# Altium footprint library memory-micron.PCBLIB: 4 footprints
Each footprint in its own frame and in the unit in brackets; x right, y up, seen from the top. Pads: shape width x height; smd on the part's side, far side on the other; paste and mask are expansions set on the pad; w line width, h text height; cw(c..) or ccw(c..) is an arc to the next point about the centre after c.
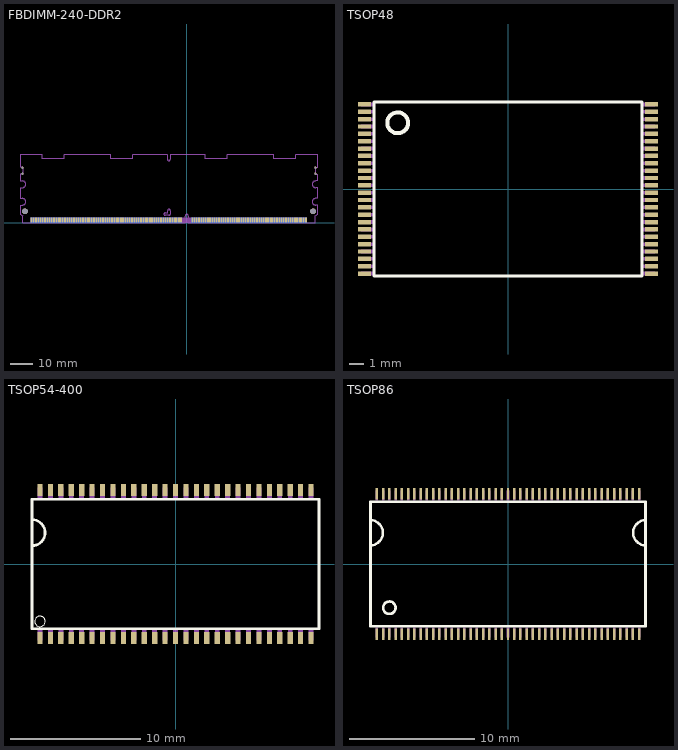
[diagram p0: the footprints below, top view; thin cyan lines are the x and y axes]

## FBDIMM-240-DDR2 [mil]
pads (246):
  round 39.37 hole 39.37: 1(-2896.46,869.09) 1(-2896.26,974.41) 1(2271.26,974.41) 1(2271.46,869.09)
  round 102.36 hole 102.36: 1(-2854.13,204.72) 1(2230.12,204.72)
  rect 31.5x90.55 smd: 1(-2736.22,49.21) 2(-2696.85,49.21) 3(-2657.48,49.21) 4(-2618.11,49.21) 5(-2578.74,49.21) 6(-2539.37,49.21) 7(-2500,49.21) 8(-2460.63,49.21) 9(-2421.26,49.21) 10(-2381.89,49.21) 11(-2342.52,49.21) 12(-2303.15,49.21) 13(-2263.78,49.21) 14(-2224.41,49.21) 15(-2185.04,49.21) 16(-2145.67,49.21) 17(-2106.3,49.21) 18(-2066.93,49.21) 19(-2027.56,49.21) 20(-1988.19,49.21) 21(-1948.82,49.21) 22(-1909.45,49.21) 23(-1870.08,49.21) 24(-1830.71,49.21) 25(-1791.34,49.21) 26(-1751.97,49.21) 27(-1712.6,49.21) 28(-1673.23,49.21) 29(-1633.86,49.21) 30(-1594.49,49.21) 31(-1555.12,49.21) 32(-1515.75,49.21) 33(-1476.38,49.21) 34(-1437.01,49.21) 35(-1397.64,49.21) 36(-1358.27,49.21) 37(-1318.9,49.21) 38(-1279.53,49.21) 39(-1240.16,49.21) 40(-1200.79,49.21) 41(-1161.42,49.21) 42(-1122.05,49.21) 43(-1082.68,49.21) 44(-1043.31,49.21) 45(-1003.94,49.21) 46(-964.57,49.21) 47(-925.2,49.21) 48(-885.83,49.21) 49(-846.46,49.21) 50(-807.09,49.21) 51(-767.72,49.21) 52(-728.35,49.21) 53(-688.98,49.21) 54(-649.61,49.21) 55(-610.24,49.21) 56(-570.87,49.21) 57(-531.5,49.21) 58(-492.13,49.21) 59(-452.76,49.21) 60(-413.39,49.21) 61(-374.02,49.21) 62(-334.65,49.21) 63(-295.28,49.21) 64(-255.91,49.21) 65(-216.54,49.21) 66(-177.17,49.21) 67(-137.8,49.21) 68(-98.43,49.21) 69(98.43,49.21) 70(137.8,49.21) 71(177.17,49.21) 72(216.54,49.21) 73(255.91,49.21) 74(295.28,49.21) 75(334.65,49.21) 76(374.02,49.21) 77(413.39,49.21) 78(452.76,49.21) 79(492.13,49.21) 80(531.5,49.21) 81(570.87,49.21) 82(610.24,49.21) 83(649.61,49.21) 84(688.98,49.21) 85(728.35,49.21) 86(767.72,49.21) 87(807.09,49.21) 88(846.46,49.21) 89(885.83,49.21) 90(925.2,49.21) 91(964.57,49.21) 92(1003.94,49.21) 93(1043.31,49.21) 94(1082.68,49.21) 95(1122.05,49.21) 96(1161.42,49.21) 97(1200.79,49.21) 98(1240.16,49.21) 99(1279.53,49.21) 100(1318.9,49.21) 101(1358.27,49.21) 102(1397.64,49.21) 103(1437.01,49.21) 104(1476.38,49.21) 105(1515.75,49.21) 106(1555.12,49.21) 107(1594.49,49.21) 108(1633.86,49.21) 109(1673.23,49.21) 110(1712.6,49.21) 111(1751.97,49.21) 112(1791.34,49.21) 113(1830.71,49.21) 114(1870.08,49.21) 115(1909.45,49.21) 116(1948.82,49.21) 117(1988.19,49.21) 118(2027.56,49.21) 119(2066.93,49.21) 120(2106.3,49.21)
  rect 31.5x90.55 smd far side: 121(-2736.22,49.21) 122(-2696.85,49.21) 123(-2657.48,49.21) 124(-2618.11,49.21) 125(-2578.74,49.21) 126(-2539.37,49.21) 127(-2500,49.21) 128(-2460.63,49.21) 129(-2421.26,49.21) 130(-2381.89,49.21) 131(-2342.52,49.21) 132(-2303.15,49.21) 133(-2263.78,49.21) 134(-2224.41,49.21) 135(-2185.04,49.21) 136(-2145.67,49.21) 137(-2106.3,49.21) 138(-2066.93,49.21) 139(-2027.56,49.21) 140(-1988.19,49.21) 141(-1948.82,49.21) 142(-1909.45,49.21) 143(-1870.08,49.21) 144(-1830.71,49.21) 145(-1791.34,49.21) 146(-1751.97,49.21) 147(-1712.6,49.21) 148(-1673.23,49.21) 149(-1633.86,49.21) 150(-1594.49,49.21) 151(-1555.12,49.21) 152(-1515.75,49.21) 153(-1476.38,49.21) 154(-1437.01,49.21) 155(-1397.64,49.21) 156(-1358.27,49.21) 157(-1318.9,49.21) 158(-1279.53,49.21) 159(-1240.16,49.21) 160(-1200.79,49.21) 161(-1161.42,49.21) 162(-1122.05,49.21) 163(-1082.68,49.21) 164(-1043.31,49.21) 165(-1003.94,49.21) 166(-964.57,49.21) 167(-925.2,49.21) 168(-885.83,49.21) 169(-846.46,49.21) 170(-807.09,49.21) 171(-767.72,49.21) 172(-728.35,49.21) 173(-688.98,49.21) 174(-649.61,49.21) 175(-610.24,49.21) 176(-570.87,49.21) 177(-531.5,49.21) 178(-492.13,49.21) 179(-452.76,49.21) 180(-413.39,49.21) 181(-374.02,49.21) 182(-334.65,49.21) 183(-295.28,49.21) 184(-255.91,49.21) 185(-216.54,49.21) 186(-177.17,49.21) 187(-137.8,49.21) 188(-98.43,49.21) 189(98.43,49.21) 190(137.8,49.21) 191(177.17,49.21) 192(216.54,49.21) 193(255.91,49.21) 194(295.28,49.21) 195(334.65,49.21) 196(374.02,49.21) 197(413.39,49.21) 198(452.76,49.21) 199(492.13,49.21) 200(531.5,49.21) 201(570.87,49.21) 202(610.24,49.21) 203(649.61,49.21) 204(688.98,49.21) 205(728.35,49.21) 206(767.72,49.21) 207(807.09,49.21) 208(846.46,49.21) 209(885.83,49.21) 210(925.2,49.21) 211(964.57,49.21) 212(1003.94,49.21) 213(1043.31,49.21) 214(1082.68,49.21) 215(1122.05,49.21) 216(1161.42,49.21) 217(1200.79,49.21) 218(1240.16,49.21) 219(1279.53,49.21) 220(1318.9,49.21) 221(1358.27,49.21) 222(1397.64,49.21) 223(1437.01,49.21) 224(1476.38,49.21) 225(1515.75,49.21) 226(1555.12,49.21) 227(1594.49,49.21) 228(1633.86,49.21) 229(1673.23,49.21) 230(1712.6,49.21) 231(1751.97,49.21) 232(1791.34,49.21) 233(1830.71,49.21) 234(1870.08,49.21) 235(1909.45,49.21) 236(1948.82,49.21) 237(1988.19,49.21) 238(2027.56,49.21) 239(2066.93,49.21) 240(2106.3,49.21)
Top Solder:
  rectangle: -2596.46,-2.95 -2561.02,96.46
  rectangle: -2557.09,-2.95 -2521.65,96.46
  rectangle: -2517.72,-2.95 -2482.28,96.46
  rectangle: -2478.35,-2.95 -2442.91,96.46
  rectangle: -2438.98,-2.95 -2403.54,96.46
  rectangle: -2399.61,-2.95 -2364.17,96.46
  rectangle: -2360.24,-2.95 -2324.8,96.46
  rectangle: -2320.87,-2.95 -2285.43,96.46
  rectangle: -2281.5,-2.95 -2246.06,96.46
  rectangle: -2242.13,-2.95 -2206.69,96.46
  rectangle: -2202.76,-2.95 -2167.32,96.46
  rectangle: -2163.39,-2.95 -2127.95,96.46
  rectangle: -2124.02,-2.95 -2088.58,96.46
  rectangle: -2084.65,-2.95 -2049.21,96.46
  rectangle: -2045.28,-2.95 -2009.84,96.46
  rectangle: -2005.91,-2.95 -1970.47,96.46
  rectangle: -1966.54,-2.95 -1931.1,96.46
  rectangle: -1927.17,-2.95 -1891.73,96.46
  rectangle: -1887.8,-2.95 -1852.36,96.46
  rectangle: -1848.43,-2.95 -1812.99,96.46
  rectangle: -1809.06,-2.95 -1773.62,96.46
  rectangle: -1769.69,-2.95 -1734.25,96.46
  rectangle: -1730.32,-2.95 -1694.88,96.46
  rectangle: -1690.94,-2.95 -1655.51,96.46
  rectangle: -1651.57,-2.95 -1616.14,96.46
  rectangle: -1612.2,-2.95 -1576.77,96.46
  rectangle: -1572.83,-2.95 -1537.4,96.46
  rectangle: -1533.46,-2.95 -1498.03,96.46
  rectangle: -1494.09,-2.95 -1458.66,96.46
  rectangle: -1454.72,-2.95 -1419.29,96.46
  rectangle: -1415.35,-2.95 -1379.92,96.46
  rectangle: -1375.98,-2.95 -1340.55,96.46
  rectangle: -1336.61,-2.95 -1301.18,96.46
  rectangle: -1297.24,-2.95 -1261.81,96.46
  rectangle: -1257.87,-2.95 -1222.44,96.46
  rectangle: -1218.5,-2.95 -1183.07,96.46
  rectangle: -1179.13,-2.95 -1143.7,96.46
  rectangle: -1139.76,-2.95 -1104.33,96.46
  rectangle: -1100.39,-2.95 -1064.96,96.46
  rectangle: -1061.02,-2.95 -1025.59,96.46
  rectangle: -1021.65,-2.95 -986.22,96.46
  rectangle: -982.28,-2.95 -946.85,96.46
  rectangle: -942.91,-2.95 -907.48,96.46
  rectangle: -903.54,-2.95 -868.11,96.46
  rectangle: -864.17,-2.95 -828.74,96.46
  rectangle: -824.8,-2.95 -789.37,96.46
  rectangle: -785.43,-2.95 -750,96.46
  rectangle: -746.06,-2.95 -710.63,96.46
  rectangle: -706.69,-2.95 -671.26,96.46
  rectangle: -667.32,-2.95 -631.89,96.46
  rectangle: -627.95,-2.95 -592.52,96.46
  rectangle: -588.58,-2.95 -553.15,96.46
  rectangle: -549.21,-2.95 -513.78,96.46
  rectangle: -509.84,-2.95 -474.41,96.46
  rectangle: -470.47,-2.95 -435.04,96.46
  rectangle: -431.1,-2.95 -395.67,96.46
  rectangle: -391.73,-2.95 -356.3,96.46
  rectangle: -352.36,-2.95 -316.93,96.46
  rectangle: -312.99,-2.95 -277.56,96.46
  rectangle: -273.62,-2.95 -238.19,96.46
  rectangle: -234.25,-2.95 -198.82,96.46
  rectangle: -194.88,-2.95 -159.45,96.46
  rectangle: -155.51,-2.95 -120.08,96.46
  rectangle: -116.14,-2.95 -80.71,96.46
  rectangle: 100.39,-2.95 135.83,96.46
  rectangle: 139.76,-2.95 175.2,96.46
  rectangle: 179.13,-2.95 214.57,96.46
  rectangle: 218.5,-2.95 253.94,96.46
  rectangle: 257.87,-2.95 293.31,96.46
  rectangle: 297.24,-2.95 332.68,96.46
  rectangle: 336.61,-2.95 372.05,96.46
  rectangle: 375.98,-2.95 411.42,96.46
  rectangle: 415.35,-2.95 450.79,96.46
  rectangle: 454.72,-2.95 490.16,96.46
  rectangle: 494.09,-2.95 529.53,96.46
  rectangle: 533.46,-2.95 568.9,96.46
  rectangle: 572.83,-2.95 608.27,96.46
  rectangle: 612.2,-2.95 647.64,96.46
  rectangle: 651.57,-2.95 687.01,96.46
  rectangle: 690.94,-2.95 726.38,96.46
  rectangle: 730.32,-2.95 765.75,96.46
  rectangle: 769.69,-2.95 805.12,96.46
  rectangle: 809.06,-2.95 844.49,96.46
  rectangle: 848.43,-2.95 883.86,96.46
  rectangle: 887.8,-2.95 923.23,96.46
  rectangle: 927.17,-2.95 962.6,96.46
  rectangle: 966.54,-2.95 1001.97,96.46
  rectangle: 1005.91,-2.95 1041.34,96.46
  rectangle: 1045.28,-2.95 1080.71,96.46
  rectangle: 1084.65,-2.95 1120.08,96.46
  rectangle: 1124.02,-2.95 1159.45,96.46
  rectangle: 1163.39,-2.95 1198.82,96.46
  rectangle: 1202.76,-2.95 1238.19,96.46
  rectangle: 1242.13,-2.95 1277.56,96.46
  rectangle: 1281.5,-2.95 1316.93,96.46
  rectangle: 1320.87,-2.95 1356.3,96.46
  rectangle: 1360.24,-2.95 1395.67,96.46
  rectangle: 1399.61,-2.95 1435.04,96.46
  rectangle: 1438.98,-2.95 1474.41,96.46
  rectangle: 1478.35,-2.95 1513.78,96.46
  rectangle: 1517.72,-2.95 1553.15,96.46
  rectangle: 1557.09,-2.95 1592.52,96.46
  rectangle: 1596.46,-2.95 1631.89,96.46
  rectangle: 1635.83,-2.95 1671.26,96.46
  rectangle: 1675.2,-2.95 1710.63,96.46
  rectangle: 1714.57,-2.95 1750,96.46
  rectangle: 1753.94,-2.95 1789.37,96.46
  rectangle: 1793.31,-2.95 1828.74,96.46
  rectangle: 1832.68,-2.95 1868.11,96.46
  rectangle: 1872.05,-2.95 1907.48,96.46
  rectangle: 1911.42,-2.95 1946.85,96.46
  rectangle: 1950.79,-2.95 1986.22,96.46
  rectangle: 1990.16,-2.95 2025.59,96.46
  rectangle: 2029.53,-2.95 2064.96,96.46
  rectangle: 2068.9,-2.95 2104.33,96.46
  rectangle: 2108.27,-2.95 2143.7,96.46
  rectangle: 2147.64,-2.95 2183.07,96.46
  rectangle: 2187.01,-2.95 2222.44,96.46
  rectangle: 2226.38,-2.95 2261.81,96.46
  rectangle: 2265.75,-2.95 2301.18,96.46
Bottom Solder:
  rectangle: -2596.46,-2.95 -2561.02,96.46
  rectangle: -2557.09,-2.95 -2521.65,96.46
  rectangle: -2517.72,-2.95 -2482.28,96.46
  rectangle: -2478.35,-2.95 -2442.91,96.46
  rectangle: -2438.98,-2.95 -2403.54,96.46
  rectangle: -2399.61,-2.95 -2364.17,96.46
  rectangle: -2360.24,-2.95 -2324.8,96.46
  rectangle: -2320.87,-2.95 -2285.43,96.46
  rectangle: -2281.5,-2.95 -2246.06,96.46
  rectangle: -2242.13,-2.95 -2206.69,96.46
  rectangle: -2202.76,-2.95 -2167.32,96.46
  rectangle: -2163.39,-2.95 -2127.95,96.46
  rectangle: -2124.02,-2.95 -2088.58,96.46
  rectangle: -2084.65,-2.95 -2049.21,96.46
  rectangle: -2045.28,-2.95 -2009.84,96.46
  rectangle: -2005.91,-2.95 -1970.47,96.46
  rectangle: -1966.54,-2.95 -1931.1,96.46
  rectangle: -1927.17,-2.95 -1891.73,96.46
  rectangle: -1887.8,-2.95 -1852.36,96.46
  rectangle: -1848.43,-2.95 -1812.99,96.46
  rectangle: -1809.06,-2.95 -1773.62,96.46
  rectangle: -1769.69,-2.95 -1734.25,96.46
  rectangle: -1730.32,-2.95 -1694.88,96.46
  rectangle: -1690.94,-2.95 -1655.51,96.46
  rectangle: -1651.57,-2.95 -1616.14,96.46
  rectangle: -1612.2,-2.95 -1576.77,96.46
  rectangle: -1572.83,-2.95 -1537.4,96.46
  rectangle: -1533.46,-2.95 -1498.03,96.46
  rectangle: -1494.09,-2.95 -1458.66,96.46
  rectangle: -1454.72,-2.95 -1419.29,96.46
  rectangle: -1415.35,-2.95 -1379.92,96.46
  rectangle: -1375.98,-2.95 -1340.55,96.46
  rectangle: -1336.61,-2.95 -1301.18,96.46
  rectangle: -1297.24,-2.95 -1261.81,96.46
  rectangle: -1257.87,-2.95 -1222.44,96.46
  rectangle: -1218.5,-2.95 -1183.07,96.46
  rectangle: -1179.13,-2.95 -1143.7,96.46
  rectangle: -1139.76,-2.95 -1104.33,96.46
  rectangle: -1100.39,-2.95 -1064.96,96.46
  rectangle: -1061.02,-2.95 -1025.59,96.46
  rectangle: -1021.65,-2.95 -986.22,96.46
  rectangle: -982.28,-2.95 -946.85,96.46
  rectangle: -942.91,-2.95 -907.48,96.46
  rectangle: -903.54,-2.95 -868.11,96.46
  rectangle: -864.17,-2.95 -828.74,96.46
  rectangle: -824.8,-2.95 -789.37,96.46
  rectangle: -785.43,-2.95 -750,96.46
  rectangle: -746.06,-2.95 -710.63,96.46
  rectangle: -706.69,-2.95 -671.26,96.46
  rectangle: -667.32,-2.95 -631.89,96.46
  rectangle: -627.95,-2.95 -592.52,96.46
  rectangle: -588.58,-2.95 -553.15,96.46
  rectangle: -549.21,-2.95 -513.78,96.46
  rectangle: -509.84,-2.95 -474.41,96.46
  rectangle: -470.47,-2.95 -435.04,96.46
  rectangle: -431.1,-2.95 -395.67,96.46
  rectangle: -391.73,-2.95 -356.3,96.46
  rectangle: -352.36,-2.95 -316.93,96.46
  rectangle: -312.99,-2.95 -277.56,96.46
  rectangle: -273.62,-2.95 -238.19,96.46
  rectangle: -234.25,-2.95 -198.82,96.46
  rectangle: -194.88,-2.95 -159.45,96.46
  rectangle: -155.51,-2.95 -120.08,96.46
  rectangle: -116.14,-2.95 -80.71,96.46
  rectangle: 100.39,-2.95 135.83,96.46
  rectangle: 139.76,-2.95 175.2,96.46
  rectangle: 179.13,-2.95 214.57,96.46
  rectangle: 218.5,-2.95 253.94,96.46
  rectangle: 257.87,-2.95 293.31,96.46
  rectangle: 297.24,-2.95 332.68,96.46
  rectangle: 336.61,-2.95 372.05,96.46
  rectangle: 375.98,-2.95 411.42,96.46
  rectangle: 415.35,-2.95 450.79,96.46
  rectangle: 454.72,-2.95 490.16,96.46
  rectangle: 494.09,-2.95 529.53,96.46
  rectangle: 533.46,-2.95 568.9,96.46
  rectangle: 572.83,-2.95 608.27,96.46
  rectangle: 612.2,-2.95 647.64,96.46
  rectangle: 651.57,-2.95 687.01,96.46
  rectangle: 690.94,-2.95 726.38,96.46
  rectangle: 730.32,-2.95 765.75,96.46
  rectangle: 769.69,-2.95 805.12,96.46
  rectangle: 809.06,-2.95 844.49,96.46
  rectangle: 848.43,-2.95 883.86,96.46
  rectangle: 887.8,-2.95 923.23,96.46
  rectangle: 927.17,-2.95 962.6,96.46
  rectangle: 966.54,-2.95 1001.97,96.46
  rectangle: 1005.91,-2.95 1041.34,96.46
  rectangle: 1045.28,-2.95 1080.71,96.46
  rectangle: 1084.65,-2.95 1120.08,96.46
  rectangle: 1124.02,-2.95 1159.45,96.46
  rectangle: 1163.39,-2.95 1198.82,96.46
  rectangle: 1202.76,-2.95 1238.19,96.46
  rectangle: 1242.13,-2.95 1277.56,96.46
  rectangle: 1281.5,-2.95 1316.93,96.46
  rectangle: 1320.87,-2.95 1356.3,96.46
  rectangle: 1360.24,-2.95 1395.67,96.46
  rectangle: 1399.61,-2.95 1435.04,96.46
  rectangle: 1438.98,-2.95 1474.41,96.46
  rectangle: 1478.35,-2.95 1513.78,96.46
  rectangle: 1517.72,-2.95 1553.15,96.46
  rectangle: 1557.09,-2.95 1592.52,96.46
  rectangle: 1596.46,-2.95 1631.89,96.46
  rectangle: 1635.83,-2.95 1671.26,96.46
  rectangle: 1675.2,-2.95 1710.63,96.46
  rectangle: 1714.57,-2.95 1750,96.46
  rectangle: 1753.94,-2.95 1789.37,96.46
  rectangle: 1793.31,-2.95 1828.74,96.46
  rectangle: 1832.68,-2.95 1868.11,96.46
  rectangle: 1872.05,-2.95 1907.48,96.46
  rectangle: 1911.42,-2.95 1946.85,96.46
  rectangle: 1950.79,-2.95 1986.22,96.46
  rectangle: 1990.16,-2.95 2025.59,96.46
  rectangle: 2029.53,-2.95 2064.96,96.46
  rectangle: 2068.9,-2.95 2104.33,96.46
  rectangle: 2108.27,-2.95 2143.7,96.46
  rectangle: 2147.64,-2.95 2183.07,96.46
  rectangle: 2187.01,-2.95 2222.44,96.46
  rectangle: 2226.38,-2.95 2261.81,96.46
  rectangle: 2265.75,-2.95 2301.18,96.46
Mechanical 1:
  lines w0: -2914.96,862.99 -2939.96,862.99 -2939.96,740.16 -2899.61,740.16 cw(c-2899.61,681.11) -2899.61,622.05 -2939.96,622.05 -2939.96,433.07 -2899.61,433.07 cw(c-2899.61,374.01) -2899.61,314.96 -2939.96,314.96 -2939.96,153.54 -2890.94,125.39 -2890.94,0 -29.53,0 -29.53,120.47 cw(c0,120.47) 29.53,120.47 29.53,0 2266.73,0 2266.73,125.2 2315.94,153.54 2315.94,314.96 2275.59,314.96 cw(c2275.59,374.01) 2275.59,433.07 2315.94,433.07 2315.94,622.05 2275.59,622.05 cw(c2275.59,681.11) 2275.59,740.16 2315.94,740.16 2315.94,862.99 2289.96,862.99 ; -2912.6,985.04 -2939.96,985.04 -2939.96,1200.79 -2552.17,1200.79 -2552.17,1135.83 -2162.4,1135.83 -2162.4,1200.79 -1339.57,1200.79 -1339.57,1135.83 -949.8,1135.83 -949.8,1200.79 -339.17,1200.79 -339.17,1119.49 ccw(c-315.75,1119.48) -315.75,1096.06 ccw(c-315.75,1119.49) -292.32,1119.49 -292.32,1200.79 323.82,1200.79 323.82,1135.83 713.58,1135.83 713.58,1200.79 1538.39,1200.79 1538.39,1135.83 1928.15,1135.83 1928.15,1200.79 2315.94,1200.79 2315.94,985.04 2287.6,985.04 ; -2889.37,887.2 -2889.37,955.51 ; 2264.37,887.2 2264.37,955.51 ; -377.76,132.09 -314.76,132.09 ccw(c-314.76,155.51) -291.34,155.51 -291.34,218.5 ccw(c-314.76,218.5) -338.19,218.5 -338.19,178.94 -377.76,178.94 ccw(c-377.76,155.51) -377.76,132.09
Mechanical 23:
  rectangle: -2755.91,0 2125.98,98.43
Mechanical 24:
  rectangle: -2755.91,0 2125.98,98.43

## TSOP48 [mm]
pads (48):
  rect 0.9x0.3 smd: 1(-9.75,5.75) 2(-9.75,5.25) 3(-9.75,4.75) 4(-9.75,4.25) 5(-9.75,3.75) 6(-9.75,3.25) 7(-9.75,2.75) 8(-9.75,2.25) 9(-9.75,1.75) 10(-9.75,1.25) 11(-9.75,0.75) 12(-9.75,0.25) 13(-9.75,-0.25) 14(-9.75,-0.75) 15(-9.75,-1.25) 16(-9.75,-1.75) 17(-9.75,-2.25) 18(-9.75,-2.75) 19(-9.75,-3.25) 20(-9.75,-3.75) 21(-9.75,-4.25) 22(-9.75,-4.75) 23(-9.75,-5.25) 24(-9.75,-5.75) 25(9.75,-5.75) 26(9.75,-5.25) 27(9.75,-4.75) 28(9.75,-4.25) 29(9.75,-3.75) 30(9.75,-3.25) 31(9.75,-2.75) 32(9.75,-2.25) 33(9.75,-1.75) 34(9.75,-1.25) 35(9.75,-0.75) 36(9.75,-0.25) 37(9.75,0.25) 38(9.75,0.75) 39(9.75,1.25) 40(9.75,1.75) 41(9.75,2.25) 42(9.75,2.75) 43(9.75,3.25) 44(9.75,3.75) 45(9.75,4.25) 46(9.75,4.75) 47(9.75,5.25) 48(9.75,5.75)
Top Overlay:
  circle w0.27: c-7.5,4.5 r0.707
  lines w0.203: -9.1,-5.9 9.1,-5.9 9.1,5.9 -9.1,5.9 -9.1,-5.9
Mechanical 16:
  rectangle: -10,5.625 -9.175,5.875
  rectangle: -10,5.125 -9.175,5.375
  rectangle: -10,4.625 -9.175,4.875
  rectangle: -10,4.125 -9.175,4.375
  rectangle: -10,3.625 -9.175,3.875
  rectangle: -10,3.125 -9.175,3.375
  rectangle: -10,2.625 -9.175,2.875
  rectangle: -10,2.125 -9.175,2.375
  rectangle: -10,1.625 -9.175,1.875
  rectangle: -10,1.125 -9.175,1.375
  rectangle: -10,0.625 -9.175,0.875
  rectangle: -10,0.125 -9.175,0.375
  rectangle: -10,-0.375 -9.175,-0.125
  rectangle: -10,-0.875 -9.175,-0.625
  rectangle: -10,-1.375 -9.175,-1.125
  rectangle: -10,-1.875 -9.175,-1.625
  rectangle: -10,-2.375 -9.175,-2.125
  rectangle: -10,-2.875 -9.175,-2.625
  rectangle: -10,-3.375 -9.175,-3.125
  rectangle: -10,-3.875 -9.175,-3.625
  rectangle: -10,-4.375 -9.175,-4.125
  rectangle: -10,-4.875 -9.175,-4.625
  rectangle: -10,-5.375 -9.175,-5.125
  rectangle: -10,-5.875 -9.175,-5.625
  region: 10,-5.625 9.175,-5.625 9.175,-5.875 10,-5.875
  region: 10,-5.125 9.175,-5.125 9.175,-5.375 10,-5.375
  region: 10,-4.625 9.175,-4.625 9.175,-4.875 10,-4.875
  region: 10,-4.125 9.175,-4.125 9.175,-4.375 10,-4.375
  region: 10,-3.625 9.175,-3.625 9.175,-3.875 10,-3.875
  region: 10,-3.125 9.175,-3.125 9.175,-3.375 10,-3.375
  region: 10,-2.625 9.175,-2.625 9.175,-2.875 10,-2.875
  region: 10,-2.125 9.175,-2.125 9.175,-2.375 10,-2.375
  region: 10,-1.625 9.175,-1.625 9.175,-1.875 10,-1.875
  region: 10,-1.125 9.175,-1.125 9.175,-1.375 10,-1.375
  region: 10,-0.625 9.175,-0.625 9.175,-0.875 10,-0.875
  region: 10,-0.125 9.175,-0.125 9.175,-0.375 10,-0.375
  region: 10,0.375 9.175,0.375 9.175,0.125 10,0.125
  region: 10,0.875 9.175,0.875 9.175,0.625 10,0.625
  region: 10,1.375 9.175,1.375 9.175,1.125 10,1.125
  region: 10,1.875 9.175,1.875 9.175,1.625 10,1.625
  region: 10,2.375 9.175,2.375 9.175,2.125 10,2.125
  region: 10,2.875 9.175,2.875 9.175,2.625 10,2.625
  region: 10,3.375 9.175,3.375 9.175,3.125 10,3.125
  region: 10,3.875 9.175,3.875 9.175,3.625 10,3.625
  region: 10,4.375 9.175,4.375 9.175,4.125 10,4.125
  region: 10,4.875 9.175,4.875 9.175,4.625 10,4.625
  region: 10,5.375 9.175,5.375 9.175,5.125 10,5.125
  region: 10,5.875 9.175,5.875 9.175,5.625 10,5.625

## TSOP54-400 [mm]
pads (54):
  rect 0.4x0.9 smd: 1(-10.4,-5.68) 2(-9.6,-5.68) 3(-8.8,-5.68) 4(-8,-5.68) 5(-7.2,-5.68) 6(-6.4,-5.68) 7(-5.6,-5.68) 8(-4.8,-5.68) 9(-4,-5.68) 10(-3.2,-5.68) 11(-2.4,-5.68) 12(-1.6,-5.68) 13(-0.8,-5.68) 14(0,-5.68) 15(0.8,-5.68) 16(1.6,-5.68) 17(2.4,-5.68) 18(3.2,-5.68) 19(4,-5.68) 20(4.8,-5.68) 21(5.6,-5.68) 22(6.4,-5.68) 23(7.2,-5.68) 24(8,-5.68) 25(8.8,-5.68) 26(9.6,-5.68) 27(10.4,-5.68) 28(10.4,5.68) 29(9.6,5.68) 30(8.8,5.68) 31(8,5.68) 32(7.2,5.68) 33(6.4,5.68) 34(5.6,5.68) 35(4.8,5.68) 36(4,5.68) 37(3.2,5.68) 38(2.4,5.68) 39(1.6,5.68) 40(0.8,5.68) 41(0,5.68) 42(-0.8,5.68) 43(-1.6,5.68) 44(-2.4,5.68) 45(-3.2,5.68) 46(-4,5.68) 47(-4.8,5.68) 48(-5.6,5.68) 49(-6.4,5.68) 50(-7.2,5.68) 51(-8,5.68) 52(-8.8,5.68) 53(-9.6,5.68) 54(-10.4,5.68)
Top Overlay:
  circle w0: c-10.4,-4.4 r0.4
  lines w0.203: -11.008,1.4 ccw(c-11.008,2.4) -11.008,3.4 ; -11.008,1.4 -11.008,3.4 ; -11.008,1.4 -11.008,-4.978 11.008,-4.978 11.008,4.978 -11.008,4.978 -11.008,3.4
Mechanical 16:
  region: -10.213,-5.88 -10.213,-5.08 -10.587,-5.08 -10.587,-5.88
  region: -9.412,-5.88 -9.412,-5.08 -9.787,-5.08 -9.787,-5.88
  region: -8.613,-5.88 -8.613,-5.08 -8.987,-5.08 -8.987,-5.88
  region: -7.813,-5.88 -7.813,-5.08 -8.187,-5.08 -8.187,-5.88
  region: -7.013,-5.88 -7.013,-5.08 -7.387,-5.08 -7.387,-5.88
  region: -6.213,-5.88 -6.213,-5.08 -6.587,-5.08 -6.587,-5.88
  region: -5.412,-5.88 -5.412,-5.08 -5.787,-5.08 -5.787,-5.88
  region: -4.613,-5.88 -4.613,-5.08 -4.987,-5.08 -4.987,-5.88
  region: -3.813,-5.88 -3.813,-5.08 -4.187,-5.08 -4.187,-5.88
  region: -3.013,-5.88 -3.013,-5.08 -3.387,-5.08 -3.387,-5.88
  region: -2.213,-5.88 -2.213,-5.08 -2.587,-5.08 -2.587,-5.88
  region: -1.412,-5.88 -1.412,-5.08 -1.787,-5.08 -1.787,-5.88
  region: -0.613,-5.88 -0.613,-5.08 -0.987,-5.08 -0.987,-5.88
  region: 0.187,-5.88 0.187,-5.08 -0.187,-5.08 -0.187,-5.88
  region: 0.987,-5.88 0.987,-5.08 0.613,-5.08 0.613,-5.88
  region: 1.787,-5.88 1.787,-5.08 1.412,-5.08 1.412,-5.88
  region: 2.587,-5.88 2.587,-5.08 2.213,-5.08 2.213,-5.88
  region: 3.387,-5.88 3.387,-5.08 3.013,-5.08 3.013,-5.88
  region: 4.187,-5.88 4.187,-5.08 3.813,-5.08 3.813,-5.88
  region: 4.987,-5.88 4.987,-5.08 4.613,-5.08 4.613,-5.88
  region: 5.787,-5.88 5.787,-5.08 5.412,-5.08 5.412,-5.88
  region: 6.587,-5.88 6.587,-5.08 6.213,-5.08 6.213,-5.88
  region: 7.387,-5.88 7.387,-5.08 7.013,-5.08 7.013,-5.88
  region: 8.187,-5.88 8.187,-5.08 7.813,-5.08 7.813,-5.88
  region: 8.987,-5.88 8.987,-5.08 8.613,-5.08 8.613,-5.88
  region: 9.787,-5.88 9.787,-5.08 9.412,-5.08 9.412,-5.88
  region: 10.587,-5.88 10.587,-5.08 10.213,-5.08 10.213,-5.88
  region: 10.213,5.88 10.213,5.08 10.587,5.08 10.587,5.88
  region: 9.787,5.08 9.787,5.88 9.412,5.88 9.412,5.08
  region: 8.987,5.08 8.987,5.88 8.613,5.88 8.613,5.08
  region: 8.187,5.08 8.187,5.88 7.813,5.88 7.813,5.08
  region: 7.387,5.08 7.387,5.88 7.013,5.88 7.013,5.08
  region: 6.587,5.08 6.587,5.88 6.213,5.88 6.213,5.08
  region: 5.787,5.08 5.787,5.88 5.412,5.88 5.412,5.08
  region: 4.987,5.08 4.987,5.88 4.613,5.88 4.613,5.08
  region: 4.187,5.08 4.187,5.88 3.813,5.88 3.813,5.08
  region: 3.387,5.08 3.387,5.88 3.013,5.88 3.013,5.08
  region: 2.587,5.08 2.587,5.88 2.213,5.88 2.213,5.08
  region: 1.787,5.08 1.787,5.88 1.412,5.88 1.412,5.08
  region: 0.987,5.08 0.987,5.88 0.613,5.88 0.613,5.08
  region: 0.187,5.08 0.187,5.88 -0.187,5.88 -0.187,5.08
  region: -0.613,5.08 -0.613,5.88 -0.987,5.88 -0.987,5.08
  region: -1.412,5.08 -1.412,5.88 -1.787,5.88 -1.787,5.08
  region: -2.213,5.08 -2.213,5.88 -2.587,5.88 -2.587,5.08
  region: -3.013,5.08 -3.013,5.88 -3.387,5.88 -3.387,5.08
  region: -3.813,5.08 -3.813,5.88 -4.187,5.88 -4.187,5.08
  region: -4.613,5.08 -4.613,5.88 -4.987,5.88 -4.987,5.08
  region: -5.412,5.08 -5.412,5.88 -5.787,5.88 -5.787,5.08
  region: -6.213,5.08 -6.213,5.88 -6.587,5.88 -6.587,5.08
  region: -7.013,5.08 -7.013,5.88 -7.387,5.88 -7.387,5.08
  region: -7.813,5.08 -7.813,5.88 -8.187,5.88 -8.187,5.08
  region: -8.613,5.08 -8.613,5.88 -8.987,5.88 -8.987,5.08
  region: -9.412,5.08 -9.412,5.88 -9.787,5.88 -9.787,5.08
  region: -10.213,5.08 -10.213,5.88 -10.587,5.88 -10.587,5.08

## TSOP86 [mm]
pads (86):
  rect 0.2x0.9 smd: 1(-10.5,-5.63) 2(-10,-5.63) 3(-9.5,-5.63) 4(-9,-5.63) 5(-8.5,-5.63) 6(-8,-5.63) 7(-7.5,-5.63) 8(-7,-5.63) 9(-6.5,-5.63) 10(-6,-5.63) 11(-5.5,-5.63) 12(-5,-5.63) 13(-4.5,-5.63) 14(-4,-5.63) 15(-3.5,-5.63) 16(-3,-5.63) 17(-2.5,-5.63) 18(-2,-5.63) 19(-1.5,-5.63) 20(-1,-5.63) 21(-0.5,-5.63) 22(0,-5.63) 23(0.5,-5.63) 24(1,-5.63) 25(1.5,-5.63) 26(2,-5.63) 27(2.5,-5.63) 28(3,-5.63) 29(3.5,-5.63) 30(4,-5.63) 31(4.5,-5.63) 32(5,-5.63) 33(5.5,-5.63) 34(6,-5.63) 35(6.5,-5.63) 36(7,-5.63) 37(7.5,-5.63) 38(8,-5.63) 39(8.5,-5.63) 40(9,-5.63) 41(9.5,-5.63) 42(10,-5.63) 43(10.5,-5.63) 44(10.5,5.63) 45(10,5.63) 46(9.5,5.63) 47(9,5.63) 48(8.5,5.63) 49(8,5.63) 50(7.5,5.63) 51(7,5.63) 52(6.5,5.63) 53(6,5.63) 54(5.5,5.63) 55(5,5.63) 56(4.5,5.63) 57(4,5.63) 58(3.5,5.63) 59(3,5.63) 60(2.5,5.63) 61(2,5.63) 62(1.5,5.63) 63(1,5.63) 64(0.5,5.63) 65(0,5.63) 66(-0.5,5.63) 67(-1,5.63) 68(-1.5,5.63) 69(-2,5.63) 70(-2.5,5.63) 71(-3,5.63) 72(-3.5,5.63) 73(-4,5.63) 74(-4.5,5.63) 75(-5,5.63) 76(-5.5,5.63) 77(-6,5.63) 78(-6.5,5.63) 79(-7,5.63) 80(-7.5,5.63) 81(-8,5.63) 82(-8.5,5.63) 83(-9,5.63) 84(-9.5,5.63) 85(-10,5.63) 86(-10.5,5.63)
Top Overlay:
  circle w0.203: c-9.5,-3.5 r0.5
  lines w0.203: -11.008,1.5 ccw(c-11.008,2.5) -11.008,3.5 ; 11.008,1.5 cw(c11.008,2.5) 11.008,3.5 ; -11.008,-4.978 -11.008,4.978 11.008,4.978 11.008,-4.978 -11.008,-4.978
Mechanical 16:
  region: -10.4,-5.88 -10.4,-5.08 -10.6,-5.08 -10.6,-5.88
  region: -9.9,-5.88 -9.9,-5.08 -10.1,-5.08 -10.1,-5.88
  region: -9.4,-5.88 -9.4,-5.08 -9.6,-5.08 -9.6,-5.88
  region: -8.9,-5.88 -8.9,-5.08 -9.1,-5.08 -9.1,-5.88
  region: -8.4,-5.88 -8.4,-5.08 -8.6,-5.08 -8.6,-5.88
  region: -7.9,-5.88 -7.9,-5.08 -8.1,-5.08 -8.1,-5.88
  region: -7.4,-5.88 -7.4,-5.08 -7.6,-5.08 -7.6,-5.88
  region: -6.9,-5.88 -6.9,-5.08 -7.1,-5.08 -7.1,-5.88
  region: -6.4,-5.88 -6.4,-5.08 -6.6,-5.08 -6.6,-5.88
  region: -5.9,-5.88 -5.9,-5.08 -6.1,-5.08 -6.1,-5.88
  region: -5.4,-5.88 -5.4,-5.08 -5.6,-5.08 -5.6,-5.88
  region: -4.9,-5.88 -4.9,-5.08 -5.1,-5.08 -5.1,-5.88
  region: -4.4,-5.88 -4.4,-5.08 -4.6,-5.08 -4.6,-5.88
  region: -3.9,-5.88 -3.9,-5.08 -4.1,-5.08 -4.1,-5.88
  region: -3.4,-5.88 -3.4,-5.08 -3.6,-5.08 -3.6,-5.88
  region: -2.9,-5.88 -2.9,-5.08 -3.1,-5.08 -3.1,-5.88
  region: -2.4,-5.88 -2.4,-5.08 -2.6,-5.08 -2.6,-5.88
  region: -1.9,-5.88 -1.9,-5.08 -2.1,-5.08 -2.1,-5.88
  region: -1.4,-5.88 -1.4,-5.08 -1.6,-5.08 -1.6,-5.88
  region: -0.9,-5.88 -0.9,-5.08 -1.1,-5.08 -1.1,-5.88
  region: -0.4,-5.88 -0.4,-5.08 -0.6,-5.08 -0.6,-5.88
  region: 0.1,-5.88 0.1,-5.08 -0.1,-5.08 -0.1,-5.88
  region: 0.6,-5.88 0.6,-5.08 0.4,-5.08 0.4,-5.88
  region: 1.1,-5.88 1.1,-5.08 0.9,-5.08 0.9,-5.88
  region: 1.6,-5.88 1.6,-5.08 1.4,-5.08 1.4,-5.88
  region: 2.1,-5.88 2.1,-5.08 1.9,-5.08 1.9,-5.88
  region: 2.6,-5.88 2.6,-5.08 2.4,-5.08 2.4,-5.88
  region: 3.1,-5.88 3.1,-5.08 2.9,-5.08 2.9,-5.88
  region: 3.6,-5.88 3.6,-5.08 3.4,-5.08 3.4,-5.88
  region: 4.1,-5.88 4.1,-5.08 3.9,-5.08 3.9,-5.88
  region: 4.6,-5.88 4.6,-5.08 4.4,-5.08 4.4,-5.88
  region: 5.1,-5.88 5.1,-5.08 4.9,-5.08 4.9,-5.88
  region: 5.6,-5.88 5.6,-5.08 5.4,-5.08 5.4,-5.88
  region: 6.1,-5.88 6.1,-5.08 5.9,-5.08 5.9,-5.88
  region: 6.6,-5.88 6.6,-5.08 6.4,-5.08 6.4,-5.88
  region: 7.1,-5.88 7.1,-5.08 6.9,-5.08 6.9,-5.88
  region: 7.6,-5.88 7.6,-5.08 7.4,-5.08 7.4,-5.88
  region: 8.1,-5.88 8.1,-5.08 7.9,-5.08 7.9,-5.88
  region: 8.6,-5.88 8.6,-5.08 8.4,-5.08 8.4,-5.88
  region: 9.1,-5.88 9.1,-5.08 8.9,-5.08 8.9,-5.88
  region: 9.6,-5.88 9.6,-5.08 9.4,-5.08 9.4,-5.88
  region: 10.1,-5.88 10.1,-5.08 9.9,-5.08 9.9,-5.88
  region: 10.6,-5.88 10.6,-5.08 10.4,-5.08 10.4,-5.88
  region: 10.6,5.08 10.6,5.88 10.4,5.88 10.4,5.08
  region: 10.1,5.08 10.1,5.88 9.9,5.88 9.9,5.08
  region: 9.6,5.08 9.6,5.88 9.4,5.88 9.4,5.08
  region: 9.1,5.08 9.1,5.88 8.9,5.88 8.9,5.08
  region: 8.6,5.08 8.6,5.88 8.4,5.88 8.4,5.08
  region: 8.1,5.08 8.1,5.88 7.9,5.88 7.9,5.08
  region: 7.6,5.08 7.6,5.88 7.4,5.88 7.4,5.08
  region: 7.1,5.08 7.1,5.88 6.9,5.88 6.9,5.08
  region: 6.6,5.08 6.6,5.88 6.4,5.88 6.4,5.08
  region: 6.1,5.08 6.1,5.88 5.9,5.88 5.9,5.08
  region: 5.6,5.08 5.6,5.88 5.4,5.88 5.4,5.08
  region: 5.1,5.08 5.1,5.88 4.9,5.88 4.9,5.08
  region: 4.6,5.08 4.6,5.88 4.4,5.88 4.4,5.08
  region: 4.1,5.08 4.1,5.88 3.9,5.88 3.9,5.08
  region: 3.6,5.08 3.6,5.88 3.4,5.88 3.4,5.08
  region: 3.1,5.08 3.1,5.88 2.9,5.88 2.9,5.08
  region: 2.6,5.08 2.6,5.88 2.4,5.88 2.4,5.08
  region: 2.1,5.08 2.1,5.88 1.9,5.88 1.9,5.08
  region: 1.6,5.08 1.6,5.88 1.4,5.88 1.4,5.08
  region: 1.1,5.08 1.1,5.88 0.9,5.88 0.9,5.08
  region: 0.6,5.08 0.6,5.88 0.4,5.88 0.4,5.08
  region: 0.1,5.08 0.1,5.88 -0.1,5.88 -0.1,5.08
  region: -0.4,5.08 -0.4,5.88 -0.6,5.88 -0.6,5.08
  region: -0.9,5.08 -0.9,5.88 -1.1,5.88 -1.1,5.08
  region: -1.4,5.08 -1.4,5.88 -1.6,5.88 -1.6,5.08
  region: -1.9,5.08 -1.9,5.88 -2.1,5.88 -2.1,5.08
  region: -2.4,5.08 -2.4,5.88 -2.6,5.88 -2.6,5.08
  region: -2.9,5.08 -2.9,5.88 -3.1,5.88 -3.1,5.08
  region: -3.4,5.08 -3.4,5.88 -3.6,5.88 -3.6,5.08
  region: -3.9,5.08 -3.9,5.88 -4.1,5.88 -4.1,5.08
  region: -4.4,5.08 -4.4,5.88 -4.6,5.88 -4.6,5.08
  region: -4.9,5.08 -4.9,5.88 -5.1,5.88 -5.1,5.08
  region: -5.4,5.08 -5.4,5.88 -5.6,5.88 -5.6,5.08
  region: -5.9,5.08 -5.9,5.88 -6.1,5.88 -6.1,5.08
  region: -6.4,5.08 -6.4,5.88 -6.6,5.88 -6.6,5.08
  region: -6.9,5.08 -6.9,5.88 -7.1,5.88 -7.1,5.08
  region: -7.4,5.08 -7.4,5.88 -7.6,5.88 -7.6,5.08
  region: -7.9,5.08 -7.9,5.88 -8.1,5.88 -8.1,5.08
  region: -8.4,5.08 -8.4,5.88 -8.6,5.88 -8.6,5.08
  region: -8.9,5.08 -8.9,5.88 -9.1,5.88 -9.1,5.08
  region: -9.4,5.08 -9.4,5.88 -9.6,5.88 -9.6,5.08
  region: -9.9,5.08 -9.9,5.88 -10.1,5.88 -10.1,5.08
  region: -10.4,5.08 -10.4,5.88 -10.6,5.88 -10.6,5.08